# EAGLE library part R-CORE-SELECTRONIC-PCB (library gael)
Transformateurs R-core pour PCB vendus par Selectronic (GAJ)
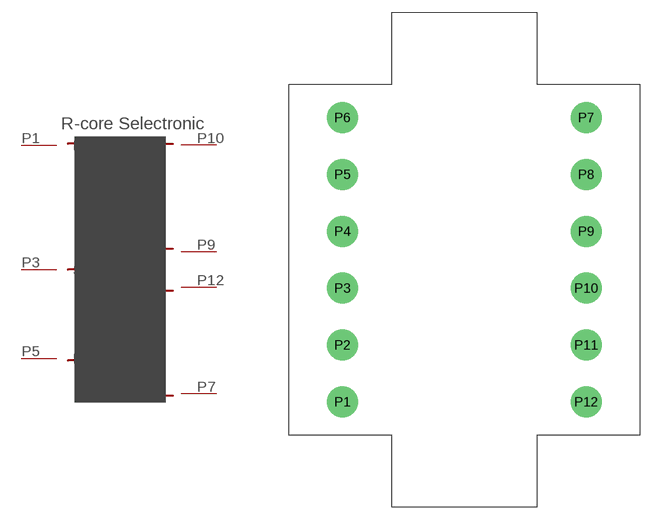
[diagram p0: symbol with the pads of R-CORE48MM; footprint R-CORE48MM]

Designator prefix -

## R-CORE-SELECTRONIC-PCB  [R-CORE48MM]
P1  PRIM-1
P3  SHIELD3
P5  PRIM5
P7  SEC1-7
P9  SEC2-9
P10  SEC2-10
P12  SEC1-12

## Footprint R-CORE48MM (pad centres in mm)
drill 2 pad 3.81: P1 -15,-17.5; P2 -15,-10.5; P3 -15,-3.5; P4 -15,3.5; P5 -15,10.5; P6 -15,17.5; P7 15,17.5; P8 15,10.5; P9 15,3.5; P10 15,-3.5; P11 15,-10.5; P12 15,-17.5